# EAGLE library part TM1804 (library IS62-65WVS0648)
IS6265WVS0684 is a serial communication SRAM IC
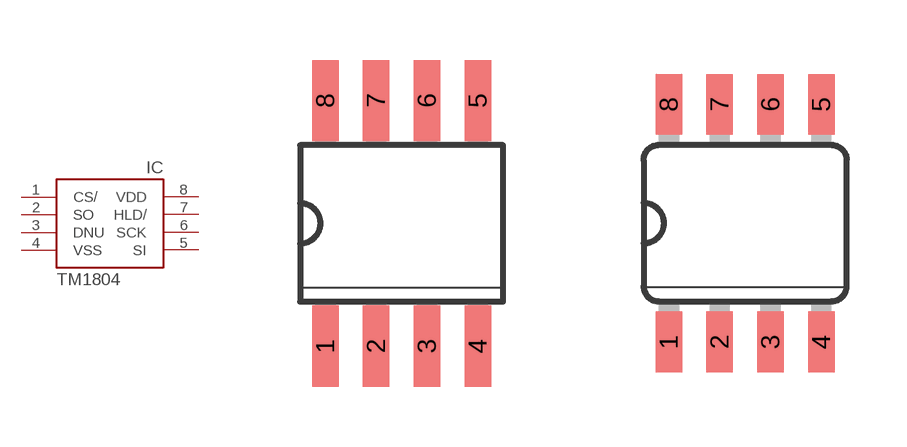
[diagram p0: symbol with the pads of SO08; footprints SO08, SO08-SKINNYPADS]

Designator prefix IC

## TM1804IS62/65WVS0648  [SO08]
1  CS/  in
2  SO  out
3  DNU
4  VSS  pwr
5  SI  in
6  SCK  in
7  HLD/  in
8  VDD  pwr

## TM1804SKINNY  [SO08-SKINNYPADS]
Pads as for SO08

## Footprint SO08 (pad centres in mm)
This is a 8-pin SOIC IS62/65WVS0648 Serial SRAM Chip
smd 0.66 x 2.032: 1 -1.905,-3.073; 2 -0.635,-3.073; 3 0.635,-3.073; 4 1.905,-3.073; 5 1.905,3.073; 6 0.635,3.073; 7 -0.635,3.073; 8 -1.905,3.073

## Footprint SO08-SKINNYPADS (pad centres in mm)
smd 0.66 x 1.524: 1 -1.905,-2.973; 2 -0.635,-2.973; 3 0.635,-2.973; 4 1.905,-2.973; 5 1.905,2.973; 6 0.635,2.973; 7 -0.635,2.973; 8 -1.905,2.973